# Altium footprint library SJ3524.PcbLib: 1 footprints
Each footprint in its own frame and in the unit in brackets; x right, y up, seen from the top. Pads: shape width x height; smd on the part's side, far side on the other; paste and mask are expansions set on the pad; w line width, h text height; cw(c..) or ccw(c..) is an arc to the next point about the centre after c.
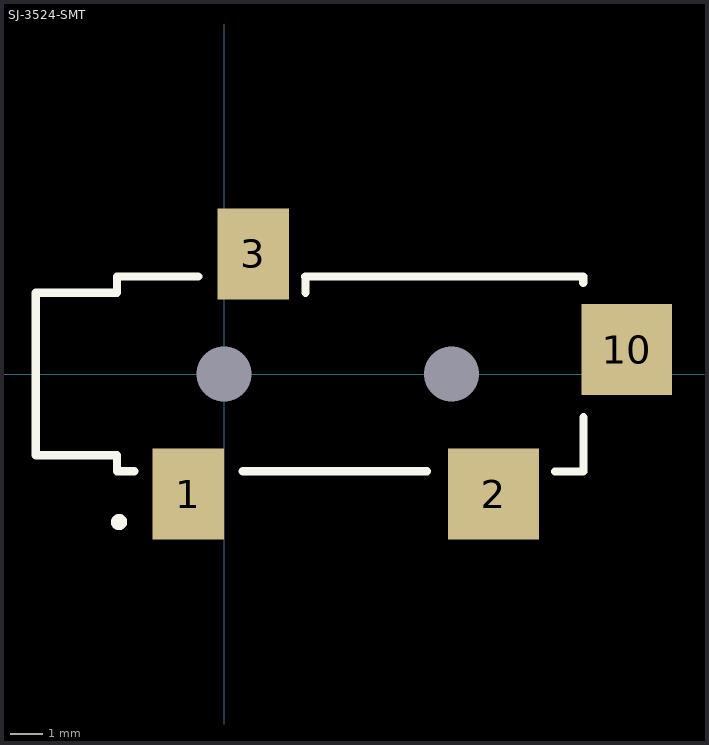
[diagram p0: the footprint, top view; thin cyan lines are the x and y axes]

## SJ-3524-SMT [mm]
pads (6):
  rect 2.2x2.8 smd: 1(-1.1,-3.7) 3(0.9,3.7)
  rect 2.8x2.8 smd: 2(8.3,-3.7) 10(12.4,0.75)
  round 0 hole 1.7: ""(0,0) ""(7,0)
Top Overlay:
  lines w0.25: -3.115,-4.528 ccw(c-3.236,-4.56) -3.113,-4.54
  lines w0.254: -3.3,-2.997 -3.3,-2.5 -5.8,-2.5 -5.8,2.5 -3.3,2.5 -3.3,3 -0.797,3 ; -3.27,-2.997 -2.768,-2.997 ; 0.575,-2.995 6.25,-2.995 ; 2.5,3 11.06,3 ; 2.502,2.5 2.502,3 ; 10.192,-3 11.06,-3 ; 11.06,2.812 11.06,2.987 ; 11.073,-2.975 11.073,-1.33
3D body: height 5, standoff 0.06, extent -3.353,-3.083 10.98,2.993
3D body: height 4.98, standoff 0, extent -5.857,-2.538 -3.357,2.453